# EAGLE library part B6B-PH-SM4-TB(LF)(SN) (library con-jst_ph)
Check availability <https://pricing.snapeda.com/parts/B6B-PH-SM4-TB%28LF%29%28SN%29/JST%20Sales%20America%20Inc./view-part?ref=eda>
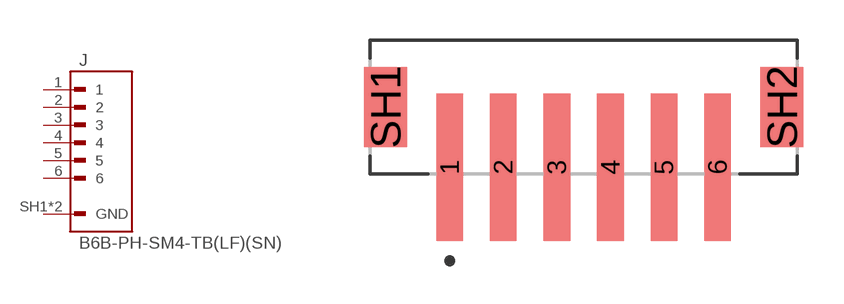
[diagram p0: symbol with the pads of JST_B6B-PH-SM4-TB(LF)(SN); footprint JST_B6B-PH-SM4-TB(LF)(SN)]

Designator prefix J

## B6B-PH-SM4-TB(LF)(SN) (AVAILABILITY: In Stock; CHECK_PRICES: https://www.snapeda.com/parts/B6B-PH-SM4-TB(LF)(SN)/JST+Sales+America+Inc./view-part/?ref=eda; DESCRIPTION: Connector Header Surface Mount 6 position 0.079 (2.00mm); MF: JST Sales America Inc.; MP: B6B-PH-SM4-TB(LF)(SN); PACKAGE: NON STANDARD-6 JST; PRICE: None; SNAPEDA_LINK: https://www.snapeda.com/parts/B6B-PH-SM4-TB(LF)(SN)/JST+Sales+America+Inc./view-part/?ref=snap)  [JST_B6B-PH-SM4-TB(LF)(SN)]
1  1  pas
2  2  pas
3  3  pas
4  4  pas
5  5  pas
6  6  pas
SH1  GND  pas
SH2  GND  pas

## Footprint JST_B6B-PH-SM4-TB(LF)(SN) (pad centres in mm)
smd 1 x 5.5: 1 -5,-2.25; 2 -3,-2.25; 3 -1,-2.25; 4 1,-2.25; 5 3,-2.25; 6 5,-2.25
smd 1.6 x 3: SH1 -7.4,0; SH2 7.4,0